# Altium footprint library HPI0420.PcbLib: 1 footprints
Each footprint in its own frame and in the unit in brackets; x right, y up, seen from the top. Pads: shape width x height; smd on the part's side, far side on the other; paste and mask are expansions set on the pad; w line width, h text height; cw(c..) or ccw(c..) is an arc to the next point about the centre after c.
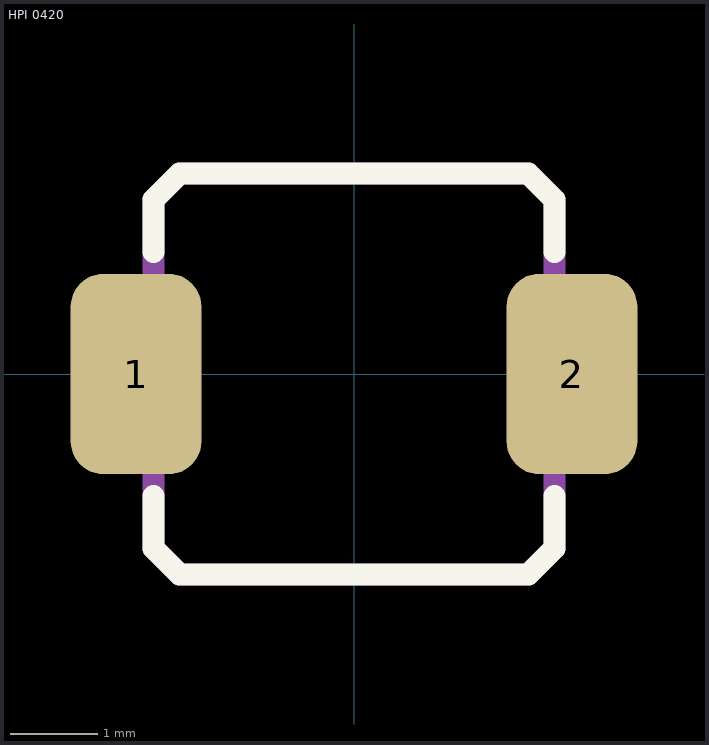
[diagram p0: the footprint, top view; thin cyan lines are the x and y axes]

## HPI 0420 [mm] "SMD mounted power inductor"
height 2
pads (2):
  rrect50% 1.5x2.3 smd: 1(-2.5,0) 2(2.5,0)
Top Overlay:
  lines w0.254: -2.3,-1.4 -2.3,-2 -2,-2.3 2,-2.3 2.3,-2 2.3,-1.4 ; -2.3,1.4 -2.3,2 -2,2.3 1.5,2.3 2,2.3 2.3,2 2.3,1.4
Mechanical 1:
  lines w0.254: -2.3,-2 -2.3,2 -2,2.3 2,2.3 2.3,2 2.3,-2 2,-2.3 -2,-2.3 -2.3,-2
3D body: height 2, standoff 0, extent -2.427,-2.427 2.427,2.427